# EAGLE library part EMC2301-1-ACZL-TR (library EMC2301-1-ACZL-TR)
RPM-Based PWM Fan Speed Controller MSOP8 Source: Datasheet <http://www.microchip.com/mymicrochip/filehandler.aspx?ddocname=en562400>
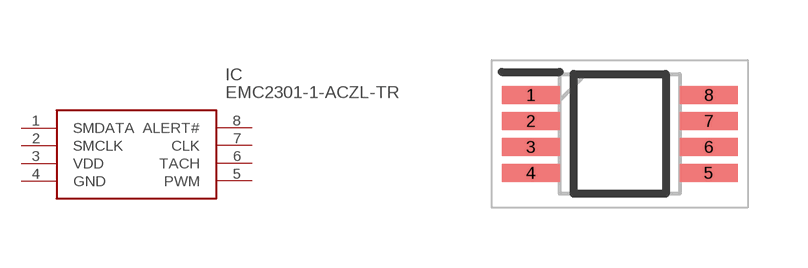
[diagram p0: symbol with the pads of SOP65P490X110-8N; footprint SOP65P490X110-8N]

Designator prefix IC

## EMC2301-1-ACZL-TR (Arrow_Part_Number: EMC2301-1-ACZL-TR; Arrow_Price-Stock: https://www.arrow.com/en/products/emc2301-1-aczl-tr/microchip-technology?region=nac; Description: RPM-Based PWM Fan Speed Controller MSOP8; Height: 1.1mm; Manufacturer_Name: Microchip; Manufacturer_Part_Number: EMC2301-1-ACZL-TR; Mouser_Part_Number: 886-EMC2301-1-ACZLTR; Mouser_Price-Stock: https://www.mouser.co.uk/ProductDetail/Microchip-Technology/EMC2301-1-ACZL-TR?qs=pA5MXup5wxFdFYiBpDRrfw%3D%3D)  [SOP65P490X110-8N]
1  SMDATA
2  SMCLK
3  VDD
4  GND
5  PWM
6  TACH
7  CLK
8  ALERT#

## Footprint SOP65P490X110-8N (pad centres in mm)
EMC2301-1-ACZL-TR-1
smd 1.45 x 0.45: 1 -2.225,0.975; 2 -2.225,0.325; 3 -2.225,-0.325; 4 -2.225,-0.975; 5 2.225,-0.975; 6 2.225,-0.325; 7 2.225,0.325; 8 2.225,0.975